# EAGLE library part ALPS-SSSS223200 (library jonsowman)
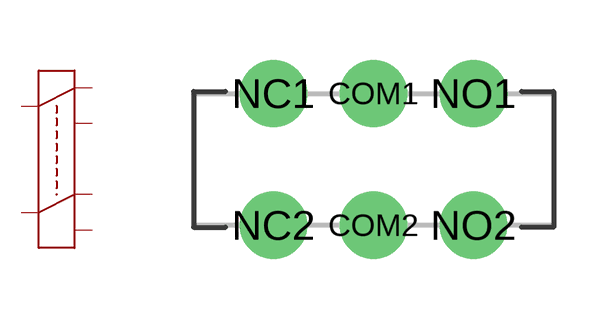
[diagram p25: symbol with the pads of ALPS-SSSS223200; footprint ALPS-SSSS223200]

Designator prefix -

## ALPS-SSSS223200  [ALPS-SSSS223200]
COM1  COM1
COM2  COM2
NC1  NC1
NC2  NC2
NO1  NO1
NO2  NO2

## Footprint ALPS-SSSS223200 (pad centres in mm)
drill 0.8 pad 1.676: COM1 0,1.65; COM2 0,-1.65; NC1 -2.5,1.65; NC2 -2.5,-1.65; NO1 2.5,1.65; NO2 2.5,-1.65